# Altium footprint library Potentiometers SMD.PcbLib: 16 footprints
Each footprint in its own frame and in the unit in brackets; x right, y up, seen from the top. Pads: shape width x height; smd on the part's side, far side on the other; paste and mask are expansions set on the pad; w line width, h text height; cw(c..) or ccw(c..) is an arc to the next point about the centre after c.
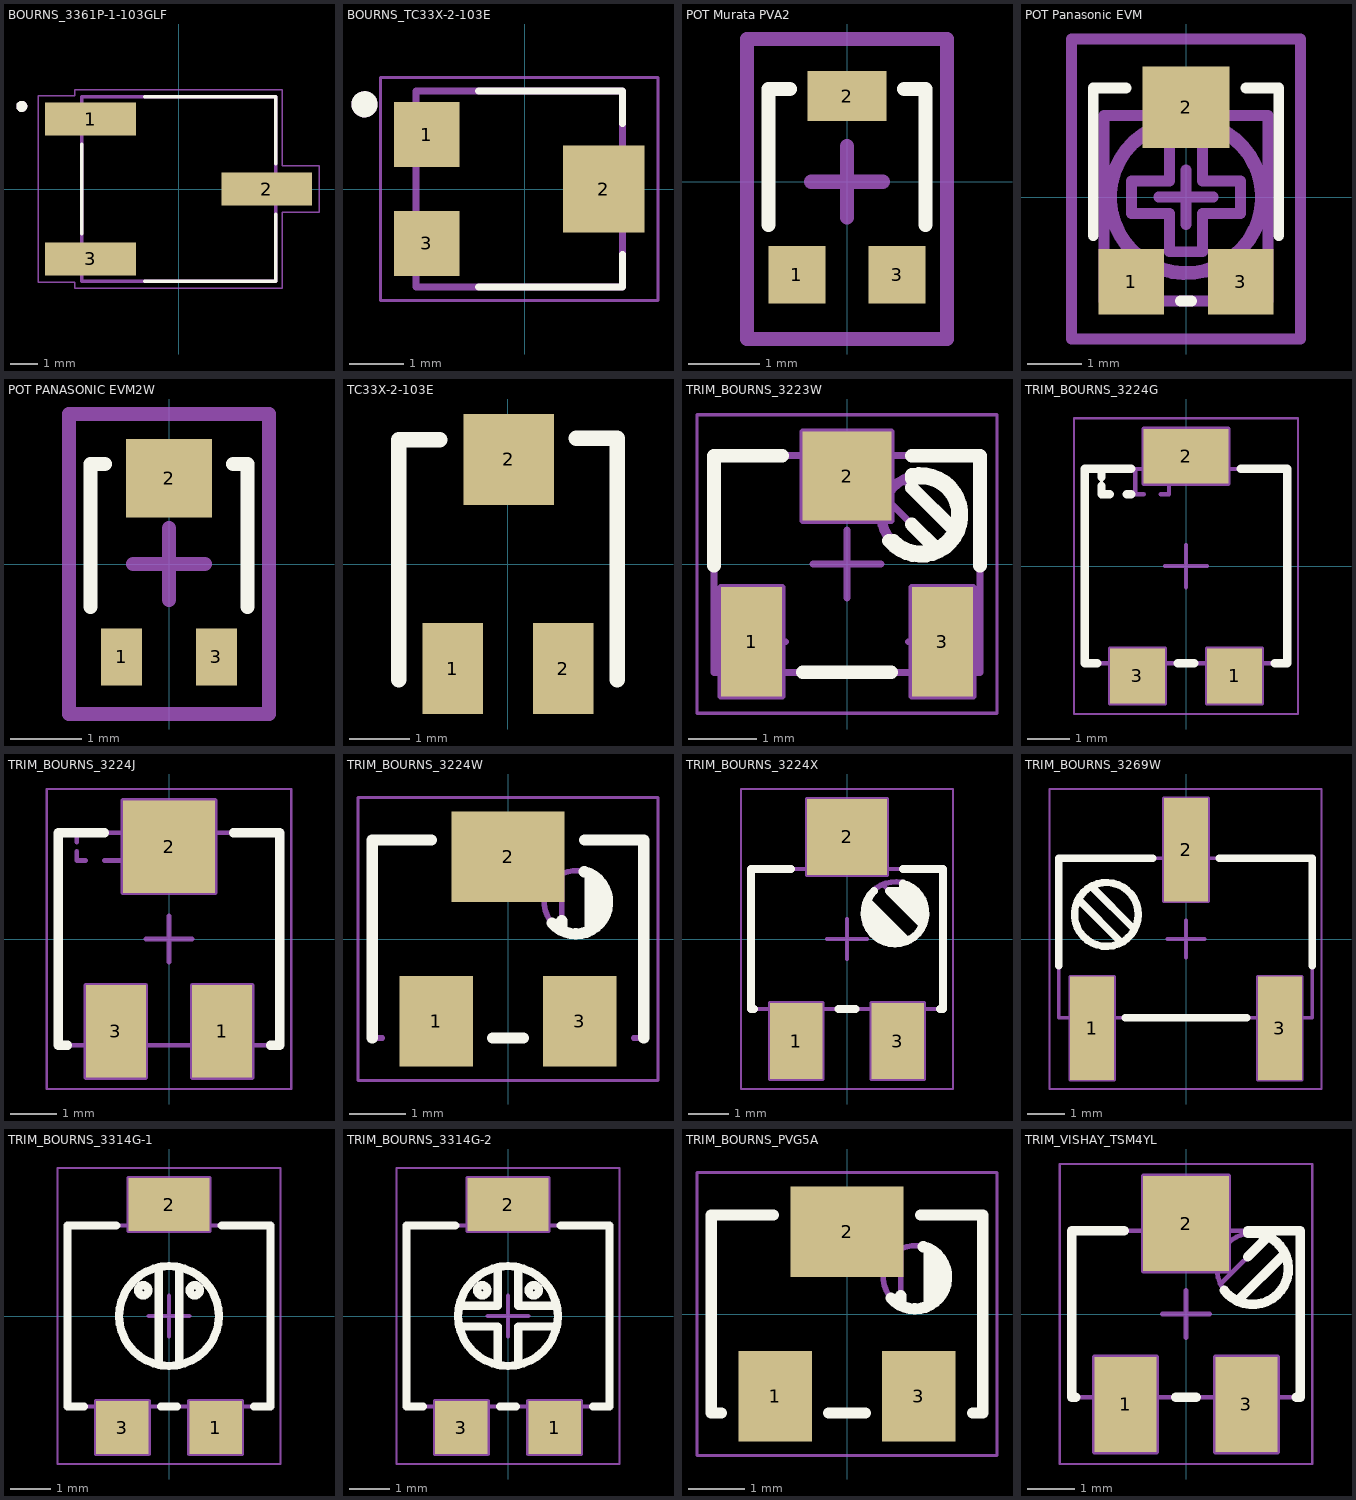
[diagram p0: the footprints below, top view; thin cyan lines are the x and y axes]

## BOURNS_3361P-1-103GLF [mm] "TRIMMER 10K OHM 0.5W GW TOP ADJ"
pads (3):
  rect 3.3x1.19 smd: 1(-3.2,2.54) 2(3.2,0) 3(-3.2,-2.54)
Top Overlay:
  circle w0.2: c-5.7,3 r0.1
  lines w0.127: -3.52,-1.625 -3.52,1.625 ; -1.23,-3.355 3.52,-3.355 3.52,-0.915 ; -1.23,3.355 3.52,3.355 3.52,0.915
Mechanical 13:
  circle w0.2: c-5.7,3 r0.1
  lines w0.127: -3.52,-3.355 -3.52,3.355 3.52,3.355 3.52,-3.355 -3.52,-3.355
Mechanical 15:
  lines w0.05: -5.1,-3.385 -5.1,3.385 -3.77,3.385 -3.77,3.605 3.77,3.605 3.77,0.845 5.1,0.845 5.1,-0.845 3.77,-0.845 3.77,-3.605 -3.77,-3.605 -3.77,-3.385 -5.1,-3.385
3D body "3361P-1-103GLF.STEP": height 5.84, standoff 0, extent -4.265,-3.355 4.265,3.355

## BOURNS_TC33X-2-103E [mm] "Rectangular - 0.150\" x 0.142\" Face (3.80mm x 3.60mm)"
pads (3):
  rect 1.2x1.2 smd: 1(-1.8,1) 3(-1.8,-1)
  rect 1.5x1.6 smd: 2(1.45,0)
Top Overlay:
  circle w0.24: c-2.946,1.558 r0.12
  lines w0.127: -0.85,-1.8 1.8,-1.8 1.8,-1.2 ; -0.85,1.8 1.8,1.8 1.8,1.2
Mechanical 13:
  circle w0.24: c-2.946,1.558 r0.12
  lines w0.127: -2,-1.8 -2,1.8 1.8,1.8 1.8,-1.8 -2,-1.8
Mechanical 15:
  lines w0.05: -2.65,-2.05 -2.65,2.05 2.45,2.05 2.45,-2.05 -2.65,-2.05
3D body "step_temp.STEP": height 1.2, standoff 0, extent -1.9,-1.5 1.9,1.5

## POT Murata PVA2 [mm] "Murata PVA2 2.75mm x 2.20mm x 0.80mm"
height 0.8
pads (3):
  rect 0.8x0.8 smd: 1(-0.7,-1.3) 3(0.7,-1.3)
  rect 1.1x0.7 smd: 2(0,1.2)
Top Overlay:
  lines w0.2: -1.1,-0.6 -1.1,1.3 -0.8,1.3 ; 0.8,1.3 1.1,1.3 1.1,-0.6
Mechanical 15:
  lines w0.2: -0.5,0 0.5,0 ; 0,-0.5 0,0.5 ; -1.4,-2.2 1.4,-2.2 1.4,2 -1.4,2 -1.4,-2.2
3D body "Murata PVA2.STEP": height 0.8, standoff 0, extent -1.1,-1.45 1.1,1.3

## POT Panasonic EVM [mm] "Panasonic EVM3Y 3.45mm x 3.10mm x 1.55mm"
height 1.55
pads (3):
  rect 1.2x1.2 smd: 1(-1,-1.55) 3(1,-1.55)
  rect 1.6x1.5 smd: 2(0,1.65)
Top Overlay:
  lines w0.2: -1.7,-0.7 -1.7,2 -1.1,2 ; -0.1,-1.9 0.1,-1.9 ; 1.1,2 1.7,2 1.7,-0.7
Mechanical 1:
  circle w0.254: c0,0 r1.393
  lines w0.2: -1.5,-1.9 1.5,-1.9 1.5,1.5 -1.5,1.5 -1.5,-1.9 ; -1,-0.3 -1,0.3 -0.3,0.3 -0.3,1 0.3,1 0.3,0.3 1,0.3 1,-0.3 0.3,-0.3 0.3,-1 -0.3,-1 -0.3,-0.3 -1,-0.3
Mechanical 15:
  lines w0.2: -0.5,0 0.5,0 ; 0,-0.5 0,0.5 ; -2.1,-2.6 -2.1,2.9 2.1,2.9 2.1,-2.6 -2.1,-2.6
3D body "Panasonic EVM.STEP": height 1.55, standoff 0, extent -1.55,-1.9 1.55,1.85

## POT PANASONIC EVM2W [mm] "Panasonic EVM2W 2.75mm x 2.20mm x 1.05mm"
height 1.05
pads (3):
  rect 0.575x0.8 smd: 1(-0.663,-1.3) 3(0.663,-1.3)
  rect 1.2x1.1 smd: 2(0,1.2)
Top Overlay:
  lines w0.2: -1.1,-0.6 -1.1,1.4 -0.9,1.4 ; 0.9,1.4 1.1,1.4 1.1,-0.6
Mechanical 15:
  lines w0.2: -0.5,0 0.5,0 ; 0,-0.5 0,0.5 ; -1.4,-2.1 -1.4,2.1 1.4,2.1 1.4,-2.1 -1.4,-2.1
3D body "Panasonic EVM2W.STEP": height 0.81, standoff 0, extent -1.1,-1.3 1.1,1.45

## TC33X-2-103E [mm]
pads (3):
  rect 1x1.5 smd: 1(-0.912,-1.725) 2(0.913,-1.725)
  rect 1.5x1.5 smd: 2(0.013,1.725)
Top Overlay:
  lines w0.254: -1.8,-1.913 -1.8,2.05 -1.125,2.05 ; 1.125,2.075 1.8,2.075 1.8,-1.913
3D body "TC-33X-2.stp": height 1.13, standoff -0.02, extent -1.8,-1.913 1.8,2.05

## TRIM_BOURNS_3223W [mm] "Bourns 3223W Trimming Potentiometer"
height 4.16
pads (3):
  rect 0.9x1.6 smd: 1(-1.4,-1.14) 3(1.4,-1.14)
  rect 1.3x1.3 smd: 2(0,1.29)
Top Overlay:
  lines w0.2: -1.95,-0.025 -1.95,1.59 -0.95,1.59 ; -0.65,-1.59 0.65,-1.59 ; 0.616,0.34 ccw(c1.08,0.72) 0.95,1.306 ; 0.682,0.34 ccw(c1.08,0.72) 0.95,1.254 ; 0.95,0.581 1.311,0.221 ; 0.95,1.119 1.579,0.489 ; 0.95,1.59 1.95,1.59 1.95,-0.025
Mechanical 8:
  lines w0.1: -1.9,-1.14 -1.4,-1.14 ; -1.4,-1.64 -1.4,-1.14 ; -1.4,-0.64 -1.4,-1.14 ; -0.9,-1.14 -1.4,-1.14 ; -0.5,0 0,0 ; -0.5,1.29 0,1.29 ; 0,-0.5 0,0 ; 0,0.5 0,0 ; 0,0.79 0,1.29 ; 0,1.79 0,1.29 ; 0.5,0 0,0 ; 0.5,1.29 0,1.29 ; 0.9,-1.14 1.4,-1.14 ; 1.4,-1.64 1.4,-1.14 ; 1.4,-0.64 1.4,-1.14 ; 1.9,-1.14 1.4,-1.14 ; -1.85,-1.94 -0.95,-1.94 -0.95,-0.34 -1.85,-0.34 -1.85,-1.94 ; -0.65,0.64 -0.65,1.94 0.65,1.94 0.65,0.64 -0.65,0.64 ; 0.95,-1.94 1.85,-1.94 1.85,-0.34 0.95,-0.34 0.95,-1.94
Mechanical 14:
  circle w0.1: c1.08,0.72 r0.6
  circle w0.1: c1.08,0.72 r0.55
  lines w0.1: -1.66,-1.59 -1.66,-1.807 -1.1,-1.81 -1.1,-1.59 ; -0.49,1.59 -0.49,1.81 0.49,1.81 0.49,1.59 ; 0.581,0.951 1.311,0.221 ; 0.849,1.219 1.579,0.489 ; 1.1,-1.59 1.1,-1.81 1.66,-1.81 1.66,-1.59 ; -1.95,-1.59 1.95,-1.59 1.95,1.59 -1.95,1.59 -1.95,-1.59
Mechanical 15:
  lines w0.05: -2.2,-2.19 -2.2,2.19 2.2,2.19 2.2,-2.19 -2.2,-2.19
3D body "TRIM_BOURNS_3223W.stp": height 4.16, standoff 0, extent -1.95,-1.81 1.95,1.81

## TRIM_BOURNS_3224G [mm] "Bourns 3224G Trimming Potentiometer"
height 3.9
pads (3):
  rect 1.3x1.3 smd: 1(1.15,-2.6) 3(-1.15,-2.6)
  rect 2x1.3 smd: 2(0,2.6)
Top Overlay:
  lines w0.2: -2.1,-2.3 -2.4,-2.3 -2.4,2.3 -1.3,2.3 ; -2,1.9 -2,1.7 -1.8,1.7 ; -2,2.1 -2,2.3 ; -1.4,1.7 -1.3,1.7 ; -0.2,-2.3 0.2,-2.3 ; 1.3,2.3 2.4,2.3 2.4,-2.3 2.1,-2.3
Mechanical 8:
  lines w0.1: -1.65,-2.6 -1.15,-2.6 ; -1.2,1.7 -1.2,2.3 ; -1.15,-3.1 -1.15,-2.6 ; -1.15,-2.1 -1.15,-2.6 ; -0.65,-2.6 -1.15,-2.6 ; -0.5,0 0,0 ; -0.5,2.6 0,2.6 ; 0,-0.5 0,0 ; 0,0.5 0,0 ; 0,2.1 0,2.6 ; 0,3.1 0,2.6 ; 0.5,0 0,0 ; 0.5,2.6 0,2.6 ; 0.65,-2.6 1.15,-2.6 ; 1.15,-3.1 1.15,-2.6 ; 1.15,-2.1 1.15,-2.6 ; 1.65,-2.6 1.15,-2.6 ; -1.8,-3.25 -0.5,-3.25 -0.5,-1.95 -1.8,-1.95 -1.8,-3.25 ; -1,1.95 1,1.95 1,3.25 -1,3.25 -1,1.95 ; 0.5,-3.25 1.8,-3.25 1.8,-1.95 0.5,-1.95 0.5,-3.25
Mechanical 14:
  lines w0.1: -2,1.9 -2,1.7 -1.8,1.7 ; -2,2.1 -2,2.3 ; -1.6,-2.3 -1.6,-3 -0.7,-3 -0.7,-2.3 ; -1.4,1.7 -1,1.7 ; -0.65,2.3 -0.65,3 0.65,3 0.65,2.3 2.4,2.3 ; -0.6,1.7 -0.4,1.7 -0.4,1.9 ; -0.4,2.1 -0.4,2.3 ; 0.7,-2.3 0.7,-3 1.6,-3 1.6,-2.3 ; 2.4,2.3 -2.4,2.3 -2.4,-2.3 2.4,-2.3 2.4,2.3
Mechanical 15:
  lines w0.05: -2.65,-3.5 -2.65,3.5 2.65,3.5 2.65,-3.5 -2.65,-3.5
3D body "TRIM_BOURNS_3224G.stp": height 3.91, standoff 0, extent -2.4,-3 2.4,3

## TRIM_BOURNS_3224J [mm] "Bourns 3224J Trimming Potentiometer"
height 3.71
pads (3):
  rect 1.3x2 smd: 1(1.15,-2) 3(-1.15,-2)
  rect 2x2 smd: 2(0,2)
Top Overlay:
  lines w0.2: -2.2,-2.3 -2.4,-2.3 -2.4,2.3 -1.4,2.3 ; 1.4,2.3 2.4,2.3 2.4,-2.3 2.2,-2.3
Mechanical 8:
  lines w0.1: -1.65,-2 -1.15,-2 ; -1.15,-2.5 -1.15,-2 ; -1.15,-1.5 -1.15,-2 ; -0.65,-2 -1.15,-2 ; -0.5,0 0,0 ; -0.5,2 0,2 ; 0,-0.5 0,0 ; 0,0.5 0,0 ; 0,1.5 0,2 ; 0,2.5 0,2 ; 0.5,0 0,0 ; 0.5,2 0,2 ; 0.65,-2 1.15,-2 ; 1.15,-2.5 1.15,-2 ; 1.15,-1.5 1.15,-2 ; 1.65,-2 1.15,-2 ; -1.8,-3 -1.8,-1 -0.5,-1 -0.5,-3 -1.8,-3 ; -1,1 1,1 1,3 -1,3 -1,1 ; 0.5,-3 0.5,-1 1.8,-1 1.8,-3 0.5,-3
Mechanical 14:
  lines w0.1: -2,1.9 -2,1.7 -1.8,1.7 ; -2,2.1 -2,2.3 ; -1.6,-2.3 -1.6,-2.5 -0.7,-2.5 -0.7,-2.3 ; -1.4,1.7 -1,1.7 ; -0.65,2.3 -0.65,2.5 0.65,2.5 0.65,2.3 2.4,2.3 ; -0.6,1.7 -0.4,1.7 -0.4,1.9 ; -0.4,2.1 -0.4,2.3 ; 0.7,-2.3 0.7,-2.5 1.6,-2.5 1.6,-2.3 ; 2.4,2.3 2.4,-2.3 -2.4,-2.3 -2.4,2.3 2.4,2.3
Mechanical 15:
  lines w0.05: -2.65,-3.25 2.65,-3.25 2.65,3.25 -2.65,3.25 -2.65,-3.25
3D body "TRIM_BOURNS_3224J.stp": height 3.71, standoff 0, extent -2.4,-2.5 2.4,2.5

## TRIM_BOURNS_3224W [mm] "Bourns 3224W Trimming Potentiometer"
height 5.3
pads (3):
  rect 1.3x1.6 smd: 1(-1.27,-1.45) 3(1.27,-1.45)
  rect 2x1.6 smd: 2(0,1.45)
Top Overlay:
  lines w0.2: -2.4,-1.75 -2.4,1.75 -1.35,1.75 ; -0.27,-1.75 0.27,-1.75 ; 0.779,0.281 ccw(c1.2,0.65) 1.347,1.19 ; 0.95,0.15 0.95,0.325 ; 1.35,1.75 2.4,1.75 2.4,-1.75 ; 1.45,0.15 1.45,1.15 ; 1.6,0.3 1.6,1
Mechanical 14:
  lines w0.1: -2.22,-1.75 -2.4,-1.75 -2.4,1.75 -1.3,1.75 ; -0.32,-1.75 0.32,-1.75 ; 0.692,0.414 cw(c1.2,0.65) 0.694,0.411 ; 0.95,0.15 0.95,1.15 ; 1.3,1.75 2.4,1.75 2.4,-1.75 2.22,-1.75 ; 1.45,0.15 1.45,1.15
Mechanical 15:
  lines w0.05: -2.65,-2.5 -2.65,2.5 2.65,2.5 2.65,-2.5 -2.65,-2.5
3D body "TRIM_BOURNS_3224W.stp": height 5.3, standoff 0, extent -2.4,-1.95 2.4,1.95

## TRIM_BOURNS_3224X [mm] "Bourns 3224X Trimming Potentiometer"
height 5.3
pads (3):
  rect 1.32x1.9 smd: 1(-1.27,-2.55) 3(1.27,-2.55)
  rect 2x1.9 smd: 2(0,2.55)
Top Overlay:
  lines w0.2: -2.33,-1.75 -2.4,-1.75 -2.4,1.75 -1.4,1.75 ; -0.21,-1.75 0.21,-1.75 ; 0.45,0.725 1.275,-0.1 ; 0.475,0.45 1,-0.075 ; 0.502,0.952 1.502,-0.048 ; 0.675,1.2 ccw(c1.2,0.65) 1.4,1.383 1.4,1.2 ; 1.396,1.379 1.925,0.85 ; 1.4,1.75 2.4,1.75 2.4,-1.75 2.33,-1.75 ; 1.898,0.348 1.046,1.2 1.325,1.2 1.95,0.575
Mechanical 8:
  lines w0.1: -1.77,-2.55 -1.27,-2.55 ; -1.27,-3.05 -1.27,-2.55 ; -1.27,-2.05 -1.27,-2.55 ; -0.77,-2.55 -1.27,-2.55 ; -0.5,0 0,0 ; -0.5,2.55 0,2.55 ; 0,-0.5 0,0 ; 0,0.5 0,0 ; 0,2.05 0,2.55 ; 0,3.05 0,2.55 ; 0.5,0 0,0 ; 0.5,2.55 0,2.55 ; 0.77,-2.55 1.27,-2.55 ; 1.27,-3.05 1.27,-2.55 ; 1.27,-2.05 1.27,-2.55 ; 1.77,-2.55 1.27,-2.55 ; -1.93,-3.5 -1.93,-1.6 -0.61,-1.6 -0.61,-3.5 -1.93,-3.5 ; -1,1.6 -1,3.5 1,3.5 1,1.6 -1,1.6 ; 0.61,-3.5 0.61,-1.6 1.93,-1.6 1.93,-3.5 0.61,-3.5
Mechanical 14:
  circle w0.1: c1.2,0.65 r0.8
  circle w0.1: c1.2,0.65 r0.76
  lines w0.1: -1.65,-1.75 -1.65,-2.85 -0.85,-2.85 -0.85,-1.75 ; -0.65,1.75 -0.65,2.85 0.65,2.85 0.65,1.75 ; 0.502,0.952 1.502,-0.048 ; 0.85,-1.75 0.85,-2.85 1.65,-2.85 1.65,-1.75 ; 0.898,1.348 1.898,0.348 ; -2.4,-1.75 -2.4,1.75 2.4,1.75 2.4,-1.75 -2.4,-1.75
Mechanical 15:
  lines w0.05: -2.65,-3.75 -2.65,3.75 2.65,3.75 2.65,-3.75 -2.65,-3.75
3D body "TRIM_BOURNS_3224X.stp": height 5.3, standoff 0, extent -2.4,-2.85 2.4,2.85

## TRIM_BOURNS_3269W [mm] "Bourns 3314G-1 Bourns 3269W Trimming Potentiometer (Top Adjust)"
height 8.46
pads (3):
  rect 1.19x2.79 smd: 1(-2.54,-2.415) 2(0,2.415) 3(2.54,-2.415)
Top Overlay:
  circle w0.2: c-2.155,0.665 r0.864
  lines w0.2: -3.443,-0.72 -3.443,2.185 -0.895,2.185 ; -2.916,1.073 -1.748,-0.096 ; -2.562,1.427 -1.394,0.258 ; -1.645,-2.135 1.645,-2.135 ; 0.895,2.185 3.417,2.185 3.417,-0.72
Mechanical 8:
  lines w0.1: -3.04,-2.415 -2.54,-2.415 ; -2.54,-2.915 -2.54,-2.415 ; -2.54,-1.915 -2.54,-2.415 ; -2.04,-2.415 -2.54,-2.415 ; -0.5,0 0,0 ; -0.5,2.415 0,2.415 ; 0,-0.5 0,0 ; 0,0.5 0,0 ; 0,1.915 0,2.415 ; 0,2.915 0,2.415 ; 0.5,0 0,0 ; 0.5,2.415 0,2.415 ; 2.04,-2.415 2.54,-2.415 ; 2.54,-2.915 2.54,-2.415 ; 2.54,-1.915 2.54,-2.415 ; 3.04,-2.415 2.54,-2.415 ; -3.135,-3.81 -1.945,-3.81 -1.945,-1.02 -3.135,-1.02 -3.135,-3.81 ; -0.595,1.02 0.595,1.02 0.595,3.81 -0.595,3.81 -0.595,1.02 ; 1.945,-3.81 3.135,-3.81 3.135,-1.02 1.945,-1.02 1.945,-3.81
Mechanical 14:
  circle w0.1: c-2.155,0.665 r0.864
  lines w0.1: -2.916,1.073 -1.748,-0.096 ; -2.77,-2.135 -2.77,-3.239 -2.31,-3.239 -2.31,-2.135 ; -2.562,1.427 -1.394,0.258 ; -0.23,2.185 -0.23,3.239 0.23,3.239 0.23,2.185 ; 2.31,-2.135 2.31,-3.239 2.77,-3.239 2.77,-2.135 ; -3.443,-2.135 3.417,-2.135 3.417,2.185 -3.443,2.185 -3.443,-2.135
Mechanical 15:
  lines w0.05: -3.693,-4.06 -3.693,4.06 3.667,4.06 3.667,-4.06 -3.693,-4.06
3D body "TRIM_BOURNS_3269W.stp": height 8.46, standoff 0, extent -3.443,-3.238 3.418,3.239

## TRIM_BOURNS_3314G-1 [mm] "Bourns 3314G-1 Single Turn 4mm Square Trimpot® Trimming Potentiometer (Top Adjust)"
height 2.55
pads (3):
  rect 1.3x1.3 smd: 1(1.15,-2.75) 3(-1.15,-2.75)
  rect 2x1.3 smd: 2(0,2.75)
Top Overlay:
  circle w0.2: c0,0 r1.23
  circle w0.2: c-0.635,0.635 r0.127
  circle w0.2: c0.635,0.635 r0.127
  lines w0.2: -2.1,-2.235 -2.5,-2.235 -2.5,2.235 -1.3,2.235 ; -0.254,-1.203 -0.254,1.204 ; -0.2,-2.235 0.2,-2.235 ; 0.254,-1.203 0.254,1.204 ; 1.3,2.235 2.5,2.235 2.5,-2.235 2.1,-2.235
Mechanical 8:
  lines w0.1: -1.65,-2.75 -1.15,-2.75 ; -1.15,-3.25 -1.15,-2.75 ; -1.15,-2.25 -1.15,-2.75 ; -0.65,-2.75 -1.15,-2.75 ; -0.5,0 0,0 ; -0.5,2.75 0,2.75 ; 0,-0.5 0,0 ; 0,0.5 0,0 ; 0,2.25 0,2.75 ; 0,3.25 0,2.75 ; 0.5,0 0,0 ; 0.5,2.75 0,2.75 ; 0.65,-2.75 1.15,-2.75 ; 1.15,-3.25 1.15,-2.75 ; 1.15,-2.25 1.15,-2.75 ; 1.65,-2.75 1.15,-2.75 ; -1.8,-3.4 -0.5,-3.4 -0.5,-2.1 -1.8,-2.1 -1.8,-3.4 ; -1,2.1 1,2.1 1,3.4 -1,3.4 -1,2.1 ; 0.5,-3.4 1.8,-3.4 1.8,-2.1 0.5,-2.1 0.5,-3.4
Mechanical 14:
  circle w0.1: c0,0 r1.23
  circle w0.1: c-0.635,0.635 r0.127
  circle w0.1: c0.635,0.635 r0.127
  lines w0.1: -0.254,-1.203 -0.254,1.204 ; 0.254,-1.203 0.254,1.204 ; -2.5,-2.235 2.5,-2.235 2.5,2.235 -2.5,2.235 -2.5,-2.235
Mechanical 15:
  lines w0.05: -2.75,-3.65 2.75,-3.65 2.75,3.65 -2.75,3.65 -2.75,-3.65
3D body "TRIM_BOURNS_3314G-1.stp": height 2.73, standoff 0, extent -2.499,-3.099 2.5,3.099

## TRIM_BOURNS_3314G-2 [mm] "Bourns 3314G-1 Single Turn 4mm Square Trimpot® Trimming Potentiometer (Cross Slot, Top Adjust)"
height 2.55
pads (3):
  rect 1.3x1.3 smd: 1(1.15,-2.75) 3(-1.15,-2.75)
  rect 2x1.3 smd: 2(0,2.75)
Top Overlay:
  circle w0.2: c0,0 r1.23
  circle w0.2: c-0.635,0.635 r0.127
  circle w0.2: c0.635,0.635 r0.127
  lines w0.2: -2.1,-2.235 -2.5,-2.235 -2.5,2.235 -1.3,2.235 ; -1.203,-0.254 -0.254,-0.254 -0.254,-1.203 ; -1.203,0.254 -0.254,0.254 -0.254,1.204 ; -0.2,-2.235 0.2,-2.235 ; 0.254,-1.203 0.254,-0.254 1.204,-0.254 ; 0.254,1.204 0.254,0.254 1.204,0.254 ; 1.3,2.235 2.5,2.235 2.5,-2.235 2.1,-2.235
Mechanical 8:
  lines w0.1: -1.65,-2.75 -1.15,-2.75 ; -1.15,-3.25 -1.15,-2.75 ; -1.15,-2.25 -1.15,-2.75 ; -0.65,-2.75 -1.15,-2.75 ; -0.5,0 0,0 ; -0.5,2.75 0,2.75 ; 0,-0.5 0,0 ; 0,0.5 0,0 ; 0,2.25 0,2.75 ; 0,3.25 0,2.75 ; 0.5,0 0,0 ; 0.5,2.75 0,2.75 ; 0.65,-2.75 1.15,-2.75 ; 1.15,-3.25 1.15,-2.75 ; 1.15,-2.25 1.15,-2.75 ; 1.65,-2.75 1.15,-2.75 ; -1.8,-3.4 -0.5,-3.4 -0.5,-2.1 -1.8,-2.1 -1.8,-3.4 ; -1,2.1 1,2.1 1,3.4 -1,3.4 -1,2.1 ; 0.5,-3.4 1.8,-3.4 1.8,-2.1 0.5,-2.1 0.5,-3.4
Mechanical 14:
  circle w0.1: c0,0 r1.23
  circle w0.1: c-0.635,0.635 r0.127
  circle w0.1: c0.635,0.635 r0.127
  lines w0.1: -1.203,-0.254 -0.254,-0.254 -0.254,-1.203 ; -1.203,0.254 -0.254,0.254 -0.254,1.204 ; 0.254,-1.203 0.254,-0.254 1.204,-0.254 ; 0.254,1.204 0.254,0.254 1.204,0.254 ; -2.5,-2.235 2.5,-2.235 2.5,2.235 -2.5,2.235 -2.5,-2.235
Mechanical 15:
  lines w0.05: -2.75,-3.65 2.75,-3.65 2.75,3.65 -2.75,3.65 -2.75,-3.65
3D body "TRIM_BOURNS_3314G-2.stp": height 2.73, standoff 0, extent -2.499,-3.099 2.5,3.099

## TRIM_BOURNS_PVG5A [mm] "Bourns PVG5A Trimming Potentiometer"
height 5.3
pads (3):
  rect 1.3x1.6 smd: 1(-1.27,-1.45) 3(1.27,-1.45)
  rect 2x1.6 smd: 2(0,1.45)
Top Overlay:
  lines w0.2: -2.22,-1.75 -2.4,-1.75 -2.4,1.75 -1.3,1.75 ; -0.32,-1.75 0.32,-1.75 ; 0.779,0.281 ccw(c1.2,0.65) 1.347,1.19 ; 0.95,0.15 0.95,0.325 ; 1.3,1.75 2.4,1.75 2.4,-1.75 2.22,-1.75 ; 1.45,0.15 1.45,1.15 ; 1.6,0.3 1.6,1
Mechanical 14:
  lines w0.1: -2.22,-1.75 -2.4,-1.75 -2.4,1.75 -1.3,1.75 ; -0.32,-1.75 0.32,-1.75 ; 0.692,0.414 cw(c1.2,0.65) 0.694,0.411 ; 0.95,0.15 0.95,1.15 ; 1.3,1.75 2.4,1.75 2.4,-1.75 2.22,-1.75 ; 1.45,0.15 1.45,1.15
Mechanical 15:
  lines w0.05: -2.65,-2.5 2.65,-2.5 2.65,2.5 -2.65,2.5 -2.65,-2.5
3D body "TRIM_BOURNS_PVG5A.stp": height 5.3, standoff 0, extent -2.4,-1.95 2.4,1.95

## TRIM_VISHAY_TSM4YL [mm] "W 3.5 x L 4.8 x H 5.3mm Trimming Potentiometer Serie TSM4YL"
height 5.3
pads (3):
  rect 1.3x2 smd: 1(-1.27,-1.9) 3(1.27,-1.9)
  rect 1.8x2 smd: 2(0,1.9)
Top Overlay:
  lines w0.2: -2.32,-1.75 -2.4,-1.75 -2.4,1.75 -1.3,1.75 ; -0.22,-1.75 0.22,-1.75 ; 0.8,0.5 ccw(c1.4,0.95) 1.3,1.693 ; 1.077,0.273 2.077,1.273 ; 1.3,1.204 1.723,1.627 ; 1.3,1.75 2.4,1.75 2.4,-1.75 2.32,-1.75
Mechanical 8:
  lines w0.1: -1.77,-1.9 -1.27,-1.9 ; -1.27,-2.4 -1.27,-1.9 ; -1.27,-1.4 -1.27,-1.9 ; -0.77,-1.9 -1.27,-1.9 ; -0.5,0 0,0 ; -0.5,1.9 0,1.9 ; 0,-0.5 0,0 ; 0,0.5 0,0 ; 0,1.4 0,1.9 ; 0,2.4 0,1.9 ; 0.5,0 0,0 ; 0.5,1.9 0,1.9 ; 0.77,-1.9 1.27,-1.9 ; 1.27,-2.4 1.27,-1.9 ; 1.27,-1.4 1.27,-1.9 ; 1.77,-1.9 1.27,-1.9 ; -1.92,-2.9 -0.62,-2.9 -0.62,-0.9 -1.92,-0.9 -1.92,-2.9 ; -0.9,0.9 0.9,0.9 0.9,2.9 -0.9,2.9 -0.9,0.9 ; 0.62,-2.9 1.92,-2.9 1.92,-0.9 0.62,-0.9 0.62,-2.9
Mechanical 14:
  circle w0.1: c1.4,0.95 r0.75
  lines w0.1: -1.57,-1.75 -1.57,-2.55 -0.97,-2.55 -0.97,-1.75 ; -0.3,1.75 -0.3,2.55 0.3,2.55 0.3,1.75 ; 0.723,0.627 1.723,1.627 ; 0.97,-1.75 0.97,-2.55 1.57,-2.55 1.57,-1.75 ; 1.077,0.273 2.077,1.273 ; -2.4,-1.75 2.4,-1.75 2.4,1.75 -2.4,1.75 -2.4,-1.75
Mechanical 15:
  lines w0.05: -2.65,-3.15 -2.65,3.15 2.65,3.15 2.65,-3.15 -2.65,-3.15
3D body "TRIM_VISHAY_TSM4YL.stp": height 5.1, standoff 0, extent -2.4,-2.55 2.4,2.55